# Altium footprint library POWER_LORA.PcbLib: 12 footprints
Each footprint in its own frame and in the unit in brackets; x right, y up, seen from the top. Pads: shape width x height; smd on the part's side, far side on the other; paste and mask are expansions set on the pad; w line width, h text height; cw(c..) or ccw(c..) is an arc to the next point about the centre after c.
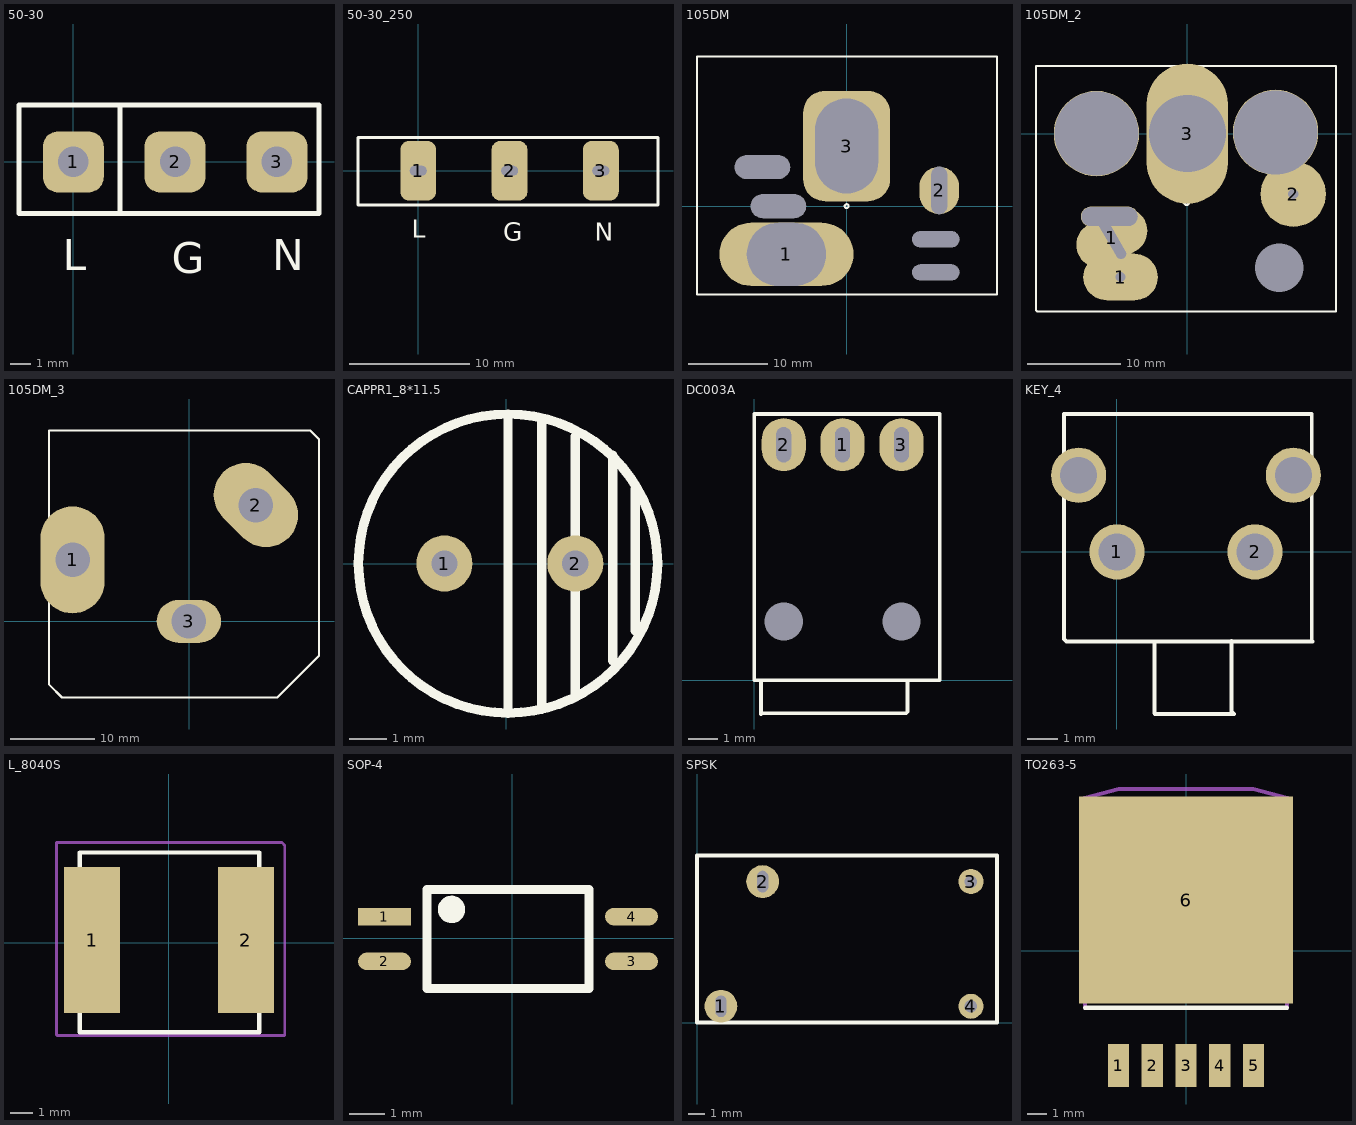
[diagram p0: the footprints below, top view; thin cyan lines are the x and y axes]

## 50-30 [mm]
pads (3):
  rrect50% 3x3 hole 1.5: 1(0,0) 2(5,0) 3(10,0)
Top Overlay:
  lines w0.254: 2.286,-2.54 2.286,2.794 ; -2.667,-2.54 -2.667,2.794 12.065,2.794 12.065,-2.54 -2.667,-2.54
  text "N" at 9.779,-5.334 h1.52
  text "L" at -0.508,-5.334 h1.52
  text "G" at 4.826,-5.461 h1.52

## 50-30_250 [mm]
pads (3):
  rrect50% 3x5 hole 0.8 slot 1.4 at 0 deg: 1(0,0) 2(7.62,0) 3(15.24,0)
Top Overlay:
  lines w0.254: 19.971,-2.845 -5.029,-2.845 -5.029,2.794 20.015,2.794 20.015,-2.845
  text "N" at 14.732,-5.842 h1.52
  text "G" at 7.112,-5.842 h1.52
  text "L" at -0.533,-5.613 h1.52

## 105DM [mm]
pads (7):
  oval 17x8 hole 8 slot 10 at 0 deg: 1(-7.62,-6.096)
  oval 5x6 hole 6 slot 2 at 0 deg: 2(11.73,2)
  rrect50% 11x14 hole 12 slot 8 at 0 deg paste+0: 3(0,7.62)
  round 0 hole 3 slot 7 at 0 deg: ""(-10.668,4.953) ""(-8.636,0)
  round 0 hole 2 slot 6 at 0 deg: ""(11.303,-8.382) ""(11.303,-4.191)
Top Overlay:
  circle w0.254: c0,0 r0.254
  lines w0.254: -18.95,-11.176 19.05,-11.176 19.05,18.95 -18.95,18.95 -18.95,-11.176

## 105DM_2 [mm]
pads (8):
  oval 5x8 hole 1.1 slot 5 at 120 deg rot 120: 1(-8.076,-11.176)
  oval 8x5 hole 1.1 square: 1(-7.144,-15.367)
  round 7 hole 1.1 square: 2(11.355,-6.477)
  oval 8.7x15 hole 8.246 square: 3(0,0)
  round 9.15 hole 9: ""(-9.727,0) ""(9.45,0.127)
  oval 6.15x2.15 hole 2 slot 6 at 0 deg: ""(-8.33,-8.89)
  round 1.524 hole 5.2 square: ""(9.831,-14.351)
Top Overlay:
  circle w0.254: c-0.075,-7.366 r0.254
  lines w0.254: -16.204,-18.923 -16.204,7.239 15.927,7.239 15.927,-19.05 -16.077,-19.05 -16.204,-18.923

## 105DM_3 [mil] "量产排座"
pads (3):
  oval 300x500 hole 161.42 square: 1(-544,286)
  oval 300x433.07 hole 161.42 square rot 45: 2(312,542)
  oval 300x200 hole 161.42 square: 3(-1,-1)
Top Overlay:
  circle w10: c-583.41,208.5 r7.07
  lines w10: -653.41,-286.5 -653.41,-296.5 ; -653.41,-296.5 -593.41,-356.5 411.59,-356.5 606.59,-161.5 606.59,848.5 565.09,890 -559.91,890 -653.41,890 -653.41,-296.5

## CAPPR1_8*11.5 [mm]
pads (2):
  round 1.5 hole 0.7: 1(-1.651,0) 2(1.849,0)
Top Overlay:
  circle w0.254: c0.049,0 r4
  lines w0.254: 0.049,-4 0.049,3.9 ; 0.949,-3.9 0.949,3.8 ; 1.849,-3.5 1.849,3.4 ; 2.849,-2.6 2.849,2.9 ; 3.449,-1.8 3.449,2
Bottom Overlay:
  circle w0.254: c0.049,-0.025 r4
  lines w0.254: 0.049,-4.025 0.049,3.875 ; 0.949,-3.925 0.949,3.775 ; 1.849,-3.525 1.849,3.375 ; 2.849,-2.625 2.849,2.875 ; 3.449,-1.825 3.449,1.975

## DC003A [mm] "DC003A 母座 3.5*1.3"
height 5
pads (5):
  oval 1.5x1.8 hole 0.5 slot 1.2 at 90 deg: 1(3,8) 2(1,8) 3(5,8)
  round 0 hole 1.3: ""(1,2) ""(5,2)
Top Overlay:
  lines w0.127: 0,9 0,0 6.3,0 ; 0,9.042 6.3,9.042 ; 0.229,0 0.229,-1.143 0.254,-1.118 5.156,-1.118 5.207,-1.067 5.207,0 ; 6.299,0.025 6.299,9.025

## KEY_4 [mm]
pads (4):
  round 1.8 hole 1.2: 1(0,0) 2(4.5,0) ""(-1.25,2.5) ""(5.75,2.5)
Top Overlay:
  lines w0.127: 1.219,-2.921 1.219,-5.258 1.245,-5.283 3.81,-5.283 3.734,-5.207 3.734,-2.896 ; -1.727,-2.845 -1.651,-2.921 6.375,-2.921 6.35,-2.896 6.35,4.496 -1.727,4.496 -1.727,-2.845

## L_8040S [mm]
pads (2):
  rect 2.5x6.5 smd: 1(-3.422,0.127) 2(3.428,0.127)
Top Overlay:
  lines w0.2: -3.972,-3.973 -3.972,4.027 4.028,4.027 4.028,-3.973 -3.972,-3.973
Mechanical 14:
  lines w0.127: -5.004,-4.089 -4.978,-4.115 5.131,-4.115 5.156,-4.089 5.156,4.343 5.029,4.47 -5.004,4.47 -5.004,-4.089
  text ".Designator" at -2.413,-0.508 h3.3

## SOP-4 [mm]
pads (4):
  rect 1.5x0.5 smd: 1(-3.627,0.61)
  oval 1.5x0.5 smd: 2(-3.627,-0.66) 3(3.373,-0.66) 4(3.373,0.61)
Top Overlay:
  circle w0.254: c-1.727,0.813 r0.262
  circle w0.254: c-1.727,0.813 r0.051
  circle w0.254: c-1.727,0.813 r0.161
  circle w0.254: c-1.727,0.813 r0.161
  lines w0.254: -2.427,-1.425 2.173,-1.425 2.173,1.375 -2.427,1.375 -2.427,-1.425
3D body "User Library-SOP-4-1.SLDPRT": height 2.1, standoff 0, extent -3.627,-1.425 3.373,1.375

## SPSK [mm]
pads (4):
  round 2 hole 0.662 slot 1.3 at 90 deg: 1(1.46,1) 2(4,8.6)
  round 1.524 hole 0.762: 3(16.7,8.6) 4(16.7,1)
Top Overlay:
  lines w0.254: 18.2,0 0,0 0,10.2 18.2,10.2 ; 18.288,0 18.288,10.2

## TO263-5 [mil]
pads (6):
  rect 42x85 smd paste-1000 mask-1000: 1(-134,-228) 2(-67,-228) 3(0,-228) 4(67,-228) 5(134,-228)
  rect 425.2x409.84 smd paste-1000 mask-1000: 6(0,100)
Top Overlay:
  lines w8: -200.55,-113.39 200.55,-113.39
Top Paste:
  region: 113,-270.5 155,-270.5 155,-185.5 113,-185.5
  region: 46,-270.5 88,-270.5 88,-185.5 46,-185.5
  region: -21,-270.5 21,-270.5 21,-185.5 -21,-185.5
  region: -88,-270.5 -46,-270.5 -46,-185.5 -88,-185.5
  region: -155,-270.5 -113,-270.5 -113,-185.5 -155,-185.5
  region: -212.6,-104.92 212.6,-104.92 212.6,304.92 -212.6,304.92
Top Solder:
  region: 109.06,-274.44 158.94,-274.44 158.94,-181.56 109.06,-181.56
  region: 42.06,-274.44 91.94,-274.44 91.94,-181.56 42.06,-181.56
  region: -24.94,-274.44 24.94,-274.44 24.94,-181.56 -24.94,-181.56
  region: -91.94,-274.44 -42.06,-274.44 -42.06,-181.56 -91.94,-181.56
  region: -158.94,-274.44 -109.06,-274.44 -109.06,-181.56 -158.94,-181.56
  region: -216.54,-108.86 216.54,-108.86 216.54,308.86 -216.54,308.86
Mechanical 1:
  lines w8: -200.55,-113.39 -200.55,282.09 200.55,282.09 200.55,-113.39 ; -200.98,286.1 200.98,286.1 200.98,302.28 132.99,320.28 -132.99,320.28 -200.98,302.28 -200.98,286.1